# Altium integrated library Coaxial Connectors (RF).IntLib: 1 symbol
Pins are listed as number, name and electrical type; pins without a type are passive.

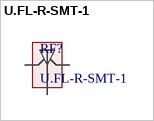
[diagram p0: symbol U.FL-R-SMT-1]

## U.FL-R-SMT-1
designator RF?
SMD UFL Ipex Konnektör; Designed: Ferdi; Frekans: DC 6GHz; ComponentLink1Description: Datasheet; ComponentLink1URL: https://www.robotistan.com/smd-ufl-ipex-konnektor?language=tr&h=f78ab61b; Temperature: -40 / +90
footprint PCBComponent_1
pins: 1, 2, 3